# Altium schematic symbol library UserCap.SchLib: 8 symbols
Pins are listed as number, name and electrical type; pins without a type are passive.

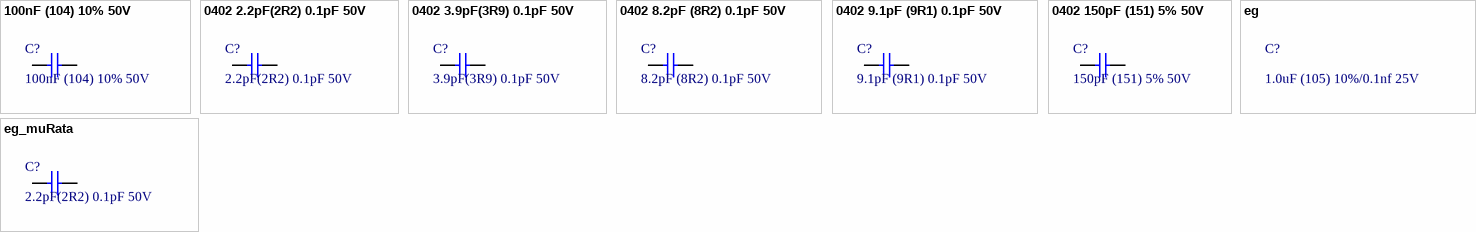
[diagram p0: symbols 100nF (104) 10% 50V to eg_muRata]

## 100nF (104) 10% 50V
designator C?
村田 0402 贴片电容; ManufacturerPartNumber: GRM155R71H104KE14D; Manufacturer: muRata(村田); ComponentLink1Description: NULL; Supplier: LC; SuppliersPartNumber: C77020; Package: 0402; SuppliersLink1URL: http://www.szlcsc.com/product/details_78147.html
footprint 0402_C
pins: 1, 2

## 0402 2.2pF(2R2) 0.1pF 50V
designator C?, comment 2.2pF(2R2) 0.1pF 50V
贴片电容; ManufacturerPartNumber: GRM1555C1H2R2BA01D; Manufacturer: muRata(村田); ComponentLink1Description: NULL; Supplier: LC; SuppliersPartNumber: C88927; Package: 0402; SuppliersLink1URL: http://www.szlcsc.com/product/details_90107.html
footprint 0402_C
pins: 1, 2

## 0402 3.9pF(3R9) 0.1pF 50V
designator C?, comment 3.9pF(3R9) 0.1pF 50V
贴片电容; ManufacturerPartNumber: GRM1555C1H3R9BA01D; Manufacturer: muRata(村田); ComponentLink1Description: NULL; Supplier: LC; SuppliersPartNumber: C76969; Package: 0402; SuppliersLink1URL: http://www.szlcsc.com/product/details_78096.html
footprint 0402_C
pins: 1, 2

## 0402 8.2pF (8R2) 0.1pF 50V
designator C?, comment 8.2pF (8R2) 0.1pF 50V
贴片电容; ManufacturerPartNumber: GRM1555C1H8R2BA01D; Manufacturer: muRata(村田); ComponentLink1Description: NULL; Supplier: LC; SuppliersPartNumber: C85944; Package: 0402; SuppliersLink1URL: http://www.szlcsc.com/product/details_87120.html
footprint 0402_C
pins: 1, 2

## 0402 9.1pF (9R1) 0.1pF 50V
designator C?, comment 9.1pF (9R1) 0.1pF 50V
贴片电容; ManufacturerPartNumber: GRM1555C1H9R1BA01D; Manufacturer: muRata(村田); ComponentLink1Description: NULL; Supplier: LC; SuppliersPartNumber: C76986; Package: 0402; SuppliersLink1URL: http://www.szlcsc.com/product/details_78113.html
footprint 0402_C
pins: 1, 2

## 0402 150pF (151) 5% 50V
designator C?, comment 150pF (151) 5% 50V
贴片电容; ManufacturerPartNumber: GRM1555C1H151JA01D; Manufacturer: muRata(村田); ComponentLink1Description: NULL; Supplier: LC; SuppliersPartNumber: C76951; Package: 0402; SuppliersLink1URL: http://www.szlcsc.com/product/details_78078.html
footprint 0402_C
pins: 1, 2

## eg
designator C?, comment 1.0uF (105) 10%/0.1nf 25V
新建元件示例; ManufacturerPartNumber: 制造商零件编号; Manufacturer: 厂商名; ComponentLink1Description: 供应商链接; Supplier: 供应商名称; SuppliersPartNumber: 销售商零件编号; Package: 封装; SuppliersLink1URL: 供应商购买链接

## eg_muRata
designator C?, comment 2.2pF(2R2) 0.1pF 50V
村田 0402 贴片电容; ManufacturerPartNumber: GRM1555C1H2R2BA01D; Manufacturer: muRata(村田); ComponentLink1Description: NULL; Supplier: LC; SuppliersPartNumber: C88927; Package: 0402; SuppliersLink1URL: http://www.szlcsc.com/product/details_90107.html
footprint 0402_C
pins: 1, 2